# Altium footprint library PCB - LEADLESS - LFCSP - AD LFCSP-6 2X2MM CP-6-3.PcbLib: 1 footprints
Each footprint in its own frame and in the unit in brackets; x right, y up, seen from the top. Pads: shape width x height; smd on the part's side, far side on the other; paste and mask are expansions set on the pad; w line width, h text height; cw(c..) or ccw(c..) is an arc to the next point about the centre after c.
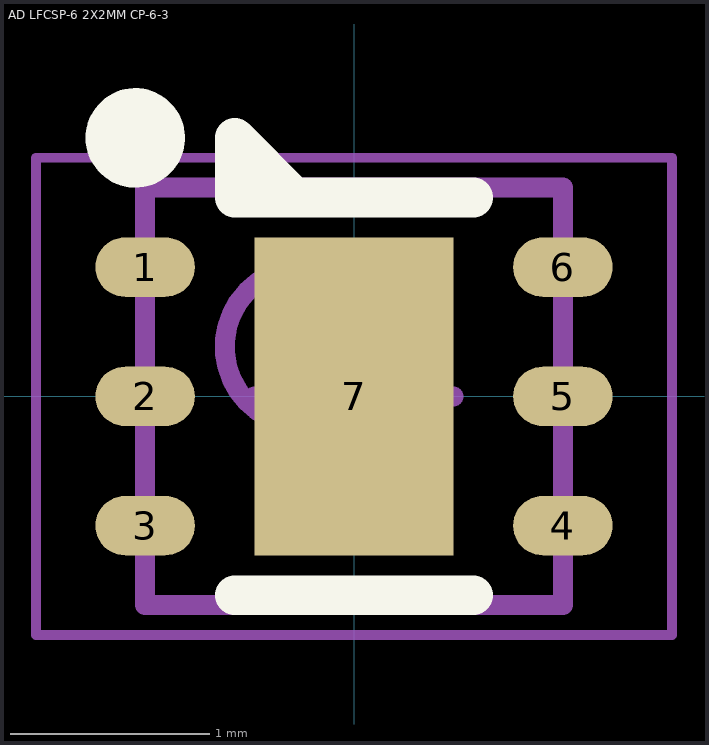
[diagram p0: the footprint, top view; thin cyan lines are the x and y axes]

## AD LFCSP-6 2X2MM CP-6-3 [mm] "LFCSP, 6-Lead Lead Frame Chip Scale Package [LFCSP]  2.00 x 2.00 mm Body and 0.55 mm Package Height"
height 0.6
pads (7):
  oval 0.5x0.3 smd: 1(-1.05,0.65) 2(-1.05,0) 3(-1.05,-0.65) 4(1.05,-0.65) 5(1.05,0) 6(1.05,0.65)
  rect 1x1.6 smd: 7(0,0)
Top Overlay:
  circle w0.25: c-1.1,1.3 r0.125
  lines w0.2: -0.6,-1 0.6,-1 ; -0.3,1 -0.6,1.3 -0.6,1 0.6,1
Mechanical 13:
  circle w0.1: c-0.25,0.25 r0.4
  lines w0.1: -1.05,-1.05 1.05,-1.05 1.05,1.05 -1.05,1.05 -1.05,-1.05
Mechanical 15:
  lines w0.05: -1.6,-1.2 1.6,-1.2 1.6,1.2 -1.6,1.2 -1.6,-1.2
  lines w0.1: -0.5,0 0.5,0 ; 0,-0.5 0,0.5
3D body "ANALOG DEV LFCSP-6 2X2MM CP-6-3.step": height 0.6, standoff 0, extent -1.06,-1.05 1.06,1.05